# Altium integrated library HARTING IDC 2.54mm Pitch.IntLib: 226 symbols (part 1 of 5)
Pins are listed as number, name and electrical type; pins without a type are passive.

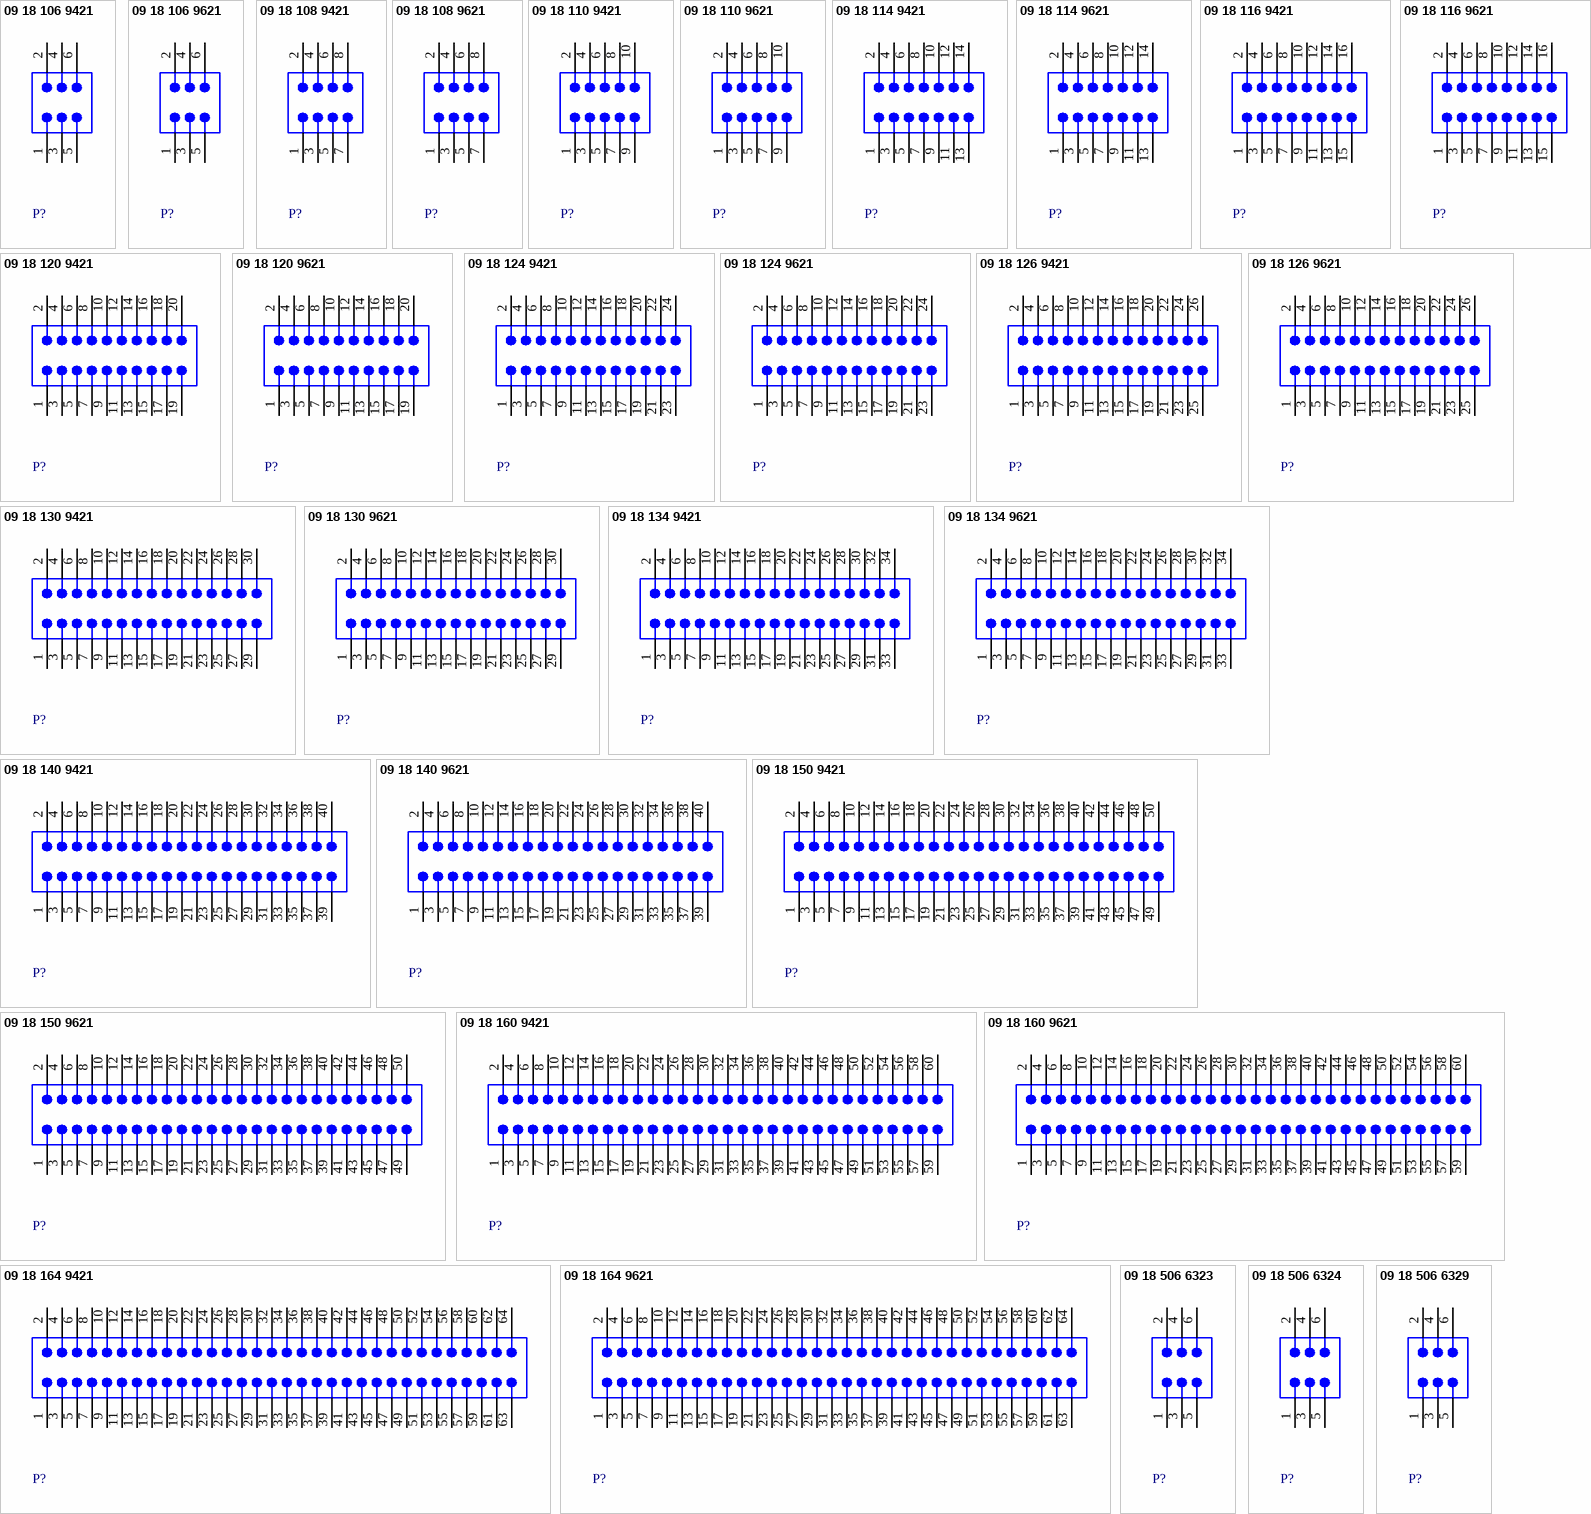
[diagram p0: symbols 09 18 106 9421 to 09 18 506 6329]

## 09 18 106 9421
designator P?
Flat Cable Connector (IDC), PCB Transition Connector, 2 Rows, Kinked Solder Pin, 6 Contacts; PCB_Layout: Complies with manufacturer's recommendation.; DrillSize: Corresponds to nominal value.; Published: 15-Nov-2004; PackageDocument: 16-Sep-2003; PackageReference: 9181069421; Publisher: Altium Limited; ComponentLink1Description: Manufacturer Link; ComponentLink1URL: http://www.harting.com/; ComponentLink2Description: Packaging Specification; ComponentLink2URL: http://www.harkis.harting.com/_sek/pdf/TB_09181069421_BL01_R31541.pdf
footprint 9181069421 (Connector; IDC, PCB Transition - 2 Rows, Thru-Hole; 6 Position; Vertical; Pitch 2.54 mm; Body 12.92 x 6.1 x 7.45 mm (LxWxH), Kinked Contacts)
pins: 1, 2, 3, 4, 5, 6

## 09 18 106 9621
designator P?
Flat Cable Connector (IDC), PCB Transition Connector, 2 Rows, Solder Pin, 6 Contacts; PCB_Layout: Complies with manufacturer's recommendation.; DrillSize: Corresponds to nominal value.; Published: 15-Nov-2004; DatasheetDocument: Sep-2003; PackageDocument: 26-Nov-2003; PackageReference: 9181069621; Publisher: Altium Limited; ComponentLink1Description: Manufacturer Link; ComponentLink1URL: http://www.harting.com/; ComponentLink2Description: Selection Guide; ComponentLink2URL: http://www.harting.com/imperia/md/content/steckverbinderundsystemkomponenten/folder/interface_engl_chapter_09.pdf
footprint 9181069621 (Connector; IDC, PCB Transition - 2 Rows, Thru-Hole; 6 Position; Vertical; Pitch 2.54 mm; Body 12.92 x 6.1 x 7.45 mm (LxWxH))
pins: 1, 2, 3, 4, 5, 6

## 09 18 108 9421
designator P?
Flat Cable Connector (IDC), PCB Transition Connector, 2 Rows, Kinked Solder Pin, 8 Contacts; PCB_Layout: Complies with manufacturer's recommendation.; DrillSize: Corresponds to nominal value.; Published: 15-Nov-2004; PackageDocument: 16-Sep-2003; PackageReference: 9181089421; Publisher: Altium Limited; ComponentLink1Description: Manufacturer Link; ComponentLink1URL: http://www.harting.com/; ComponentLink2Description: Packaging Specification; ComponentLink2URL: http://www.harkis.harting.com/_sek/pdf/TB_09181089421_BL01_R31541.pdf
footprint 9181089421 (Connector; IDC, PCB Transition - 2 Rows, Thru-Hole; 8 Position; Vertical; Pitch 2.54 mm; Body 15.46 x 6.1 x 7.45 mm (LxWxH), Kinked Contacts)
pins: 1, 2, 3, 4, 5, 6, 7, 8

## 09 18 108 9621
designator P?
Flat Cable Connector (IDC), PCB Transition Connector, 2 Rows, Solder Pin, 8 Contacts; PCB_Layout: Complies with manufacturer's recommendation.; DrillSize: Corresponds to nominal value.; Published: 15-Nov-2004; PackageDocument: 26-Nov-2003; PackageReference: 9181089621; Publisher: Altium Limited; ComponentLink1Description: Manufacturer Link; ComponentLink1URL: http://www.harting.com/; ComponentLink2Description: Packaging Specification; ComponentLink2URL: http://www.harkis.harting.com/_sek/pdf/TB_09181089621_BL01_R32151.pdf
footprint 9181089621 (Connector; IDC, PCB Transition - 2 Rows, Thru-Hole; 8 Position; Vertical; Pitch 2.54 mm; Body 15.46 x 6.1 x 7.45 mm (LxWxH))
pins: 1, 2, 3, 4, 5, 6, 7, 8

## 09 18 110 9421
designator P?
Flat Cable Connector (IDC), PCB Transition Connector, 2 Rows, Kinked Solder Pin, 10 Contacts; PCB_Layout: Complies with manufacturer's recommendation.; DrillSize: Corresponds to nominal value.; Published: 15-Nov-2004; PackageDocument: 16-Sep-2003; PackageReference: 9181109421; Publisher: Altium Limited; ComponentLink1Description: Manufacturer Link; ComponentLink1URL: http://www.harting.com/; ComponentLink2Description: Packaging Specification; ComponentLink2URL: http://www.harkis.harting.com/_sek/pdf/TB_09181109421_BL01_R31541.pdf
footprint 9181109421 (Connector; IDC, PCB Transition - 2 Rows, Thru-Hole; 10 Position; Vertical; Pitch 2.54 mm; Body 18.00 x 6.1 x 7.45 mm (LxWxH), Kinked Contacts)
pins: 1, 2, 3, 4, 5, 6, 7, 8, 9, 10

## 09 18 110 9621
designator P?
Flat Cable Connector (IDC), PCB Transition Connector, 2 Rows, Solder Pin, 10 Contacts; PCB_Layout: Complies with manufacturer's recommendation.; DrillSize: Corresponds to nominal value.; Published: 15-Nov-2004; DatasheetDocument: Sep-2003; PackageDocument: 26-Nov-2003; PackageReference: 9181109621; Publisher: Altium Limited; ComponentLink1Description: Manufacturer Link; ComponentLink1URL: http://www.harting.com/; ComponentLink2Description: Selection Guide; ComponentLink2URL: http://www.harting.com/imperia/md/content/steckverbinderundsystemkomponenten/folder/interface_engl_chapter_09.pdf
footprint 9181109621 (Connector; IDC, PCB Transition - 2 Rows, Thru-Hole; 10 Position; Vertical; Pitch 2.54 mm; Body 18.00 x 6.1 x 7.45 mm (LxWxH))
pins: 1, 2, 3, 4, 5, 6, 7, 8, 9, 10

## 09 18 114 9421
designator P?
Flat Cable Connector (IDC), PCB Transition Connector, 2 Rows, Kinked Solder Pin, 14 Contacts; PCB_Layout: Complies with manufacturer's recommendation.; DrillSize: Corresponds to nominal value.; Published: 15-Nov-2004; PackageDocument: 16-Sep-2003; PackageReference: 9181149421; Publisher: Altium Limited; ComponentLink1Description: Manufacturer Link; ComponentLink1URL: http://www.harting.com/; ComponentLink2Description: Packaging Specification; ComponentLink2URL: http://www.harkis.harting.com/_sek/pdf/TB_09181149421_BL01_R31541.pdf
footprint 9181149421 (Connector; IDC, PCB Transition - 2 Rows, Thru-Hole; 14 Position; Vertical; Pitch 2.54 mm; Body 23.08 x 6.1 x 7.45 mm (LxWxH), Kinked Contacts)
pins: 1, 2, 3, 4, 5, 6, 7, 8, 9, 10, 11, 12, 13, 14

## 09 18 114 9621
designator P?
Flat Cable Connector (IDC), PCB Transition Connector, 2 Rows, Solder Pin, 14 Contacts; PCB_Layout: Complies with manufacturer's recommendation.; DrillSize: Corresponds to nominal value.; Published: 15-Nov-2004; DatasheetDocument: Sep-2003; PackageDocument: 26-Nov-2003; PackageReference: 9181149621; Publisher: Altium Limited; ComponentLink1Description: Manufacturer Link; ComponentLink1URL: http://www.harting.com/; ComponentLink2Description: Selection Guide; ComponentLink2URL: http://www.harting.com/imperia/md/content/steckverbinderundsystemkomponenten/folder/interface_engl_chapter_09.pdf
footprint 9181149621 (Connector; IDC, PCB Transition - 2 Rows, Thru-Hole; 14 Position; Vertical; Pitch 2.54 mm; Body 23.08 x 6.1 x 7.45 mm (LxWxH))
pins: 1, 2, 3, 4, 5, 6, 7, 8, 9, 10, 11, 12, 13, 14

## 09 18 116 9421
designator P?
Flat Cable Connector (IDC), PCB Transition Connector, 2 Rows, Kinked Solder Pin, 16 Contacts; PCB_Layout: Complies with manufacturer's recommendation.; DrillSize: Corresponds to nominal value.; Published: 15-Nov-2004; PackageDocument: 16-Sep-2003; PackageReference: 9181169421; Publisher: Altium Limited; ComponentLink1Description: Manufacturer Link; ComponentLink1URL: http://www.harting.com/; ComponentLink2Description: Packaging Specification; ComponentLink2URL: http://www.harkis.harting.com/_sek/pdf/TB_09181169421_BL01_R31541.pdf
footprint 9181169421 (Connector; IDC, PCB Transition - 2 Rows, Thru-Hole; 16 Position; Vertical; Pitch 2.54 mm; Body 25.62 x 6.1 x 7.45 mm (LxWxH), Kinked Contacts)
pins: 1, 2, 3, 4, 5, 6, 7, 8, 9, 10, 11, 12, 13, 14, 15, 16

## 09 18 116 9621
designator P?
Flat Cable Connector (IDC), PCB Transition Connector, 2 Rows, Solder Pin, 16 Contacts; PCB_Layout: Complies with manufacturer's recommendation.; DrillSize: Corresponds to nominal value.; Published: 15-Nov-2004; DatasheetDocument: Sep-2003; PackageDocument: 26-Nov-2003; PackageReference: 9181169621; Publisher: Altium Limited; ComponentLink1Description: Manufacturer Link; ComponentLink1URL: http://www.harting.com/; ComponentLink2Description: Selection Guide; ComponentLink2URL: http://www.harting.com/imperia/md/content/steckverbinderundsystemkomponenten/folder/interface_engl_chapter_09.pdf
footprint 9181169621 (Connector; IDC, PCB Transition - 2 Rows, Thru-Hole; 16 Position; Vertical; Pitch 2.54 mm; Body 25.62 x 6.1 x 7.45 mm (LxWxH))
pins: 1, 2, 3, 4, 5, 6, 7, 8, 9, 10, 11, 12, 13, 14, 15, 16

## 09 18 120 9421
designator P?
Flat Cable Connector (IDC), PCB Transition Connector, 2 Rows, Kinked Solder Pin, 20 Contacts; PCB_Layout: Complies with manufacturer's recommendation.; DrillSize: Corresponds to nominal value.; Published: 15-Nov-2004; PackageDocument: 16-Sep-2003; PackageReference: 9181209421; Publisher: Altium Limited; ComponentLink1Description: Manufacturer Link; ComponentLink1URL: http://www.harting.com/; ComponentLink2Description: Packaging Specification; ComponentLink2URL: http://www.harkis.harting.com/_sek/pdf/TB_09181209421_BL01_R31541.pdf
footprint 9181209421 (Connector; IDC, PCB Transition - 2 Rows, Thru-Hole; 20 Position; Vertical; Pitch 2.54 mm; Body 30.74 x 6.1 x 7.45 mm (LxWxH), Kinked Contacts)
pins: 1, 2, 3, 4, 5, 6, 7, 8, 9, 10, 11, 12, 13, 14, 15, 16, 17, 18, 19, 20

## 09 18 120 9621
designator P?
Flat Cable Connector (IDC), PCB Transition Connector, 2 Rows, Solder Pin, 20 Contacts; PCB_Layout: Complies with manufacturer's recommendation.; DrillSize: Corresponds to nominal value.; Published: 15-Nov-2004; DatasheetDocument: Sep-2003; PackageDocument: 26-Nov-2003; PackageReference: 9181209621; Publisher: Altium Limited; ComponentLink1Description: Manufacturer Link; ComponentLink1URL: http://www.harting.com/; ComponentLink2Description: Selection Guide; ComponentLink2URL: http://www.harting.com/imperia/md/content/steckverbinderundsystemkomponenten/folder/interface_engl_chapter_09.pdf
footprint 9181209621 (Connector; IDC, PCB Transition - 2 Rows, Thru-Hole; 20 Position; Vertical; Pitch 2.54 mm; Body 30.74 x 6.1 x 7.45 mm (LxWxH))
pins: 1, 2, 3, 4, 5, 6, 7, 8, 9, 10, 11, 12, 13, 14, 15, 16, 17, 18, 19, 20

## 09 18 124 9421
designator P?
Flat Cable Connector (IDC), PCB Transition Connector, 2 Rows, Kinked Solder Pin, 24 Contacts; PCB_Layout: Complies with manufacturer's recommendation.; DrillSize: Corresponds to nominal value.; Published: 15-Nov-2004; PackageReference: 9181249421; Publisher: Altium Limited; ComponentLink1Description: Manufacturer Link; ComponentLink1URL: http://www.harting.com/
footprint 9181249421 (Connector; IDC, PCB Transition - 2 Rows, Thru-Hole; 24 Position; Vertical; Pitch 2.54 mm; Body 35.78 x 6.1 x 7.45 mm (LxWxH), Kinked Contacts)
pins: 1, 2, 3, 4, 5, 6, 7, 8, 9, 10, 11, 12, 13, 14, 15, 16, 17, 18, 19, 20, 21, 22, 23, 24

## 09 18 124 9621
designator P?
Flat Cable Connector (IDC), PCB Transition Connector, 2 Rows, Solder Pin, 24 Contacts; PCB_Layout: Complies with manufacturer's recommendation.; DrillSize: Corresponds to nominal value.; Published: 15-Nov-2004; PackageDocument: 26-Nov-2003; PackageReference: 9181249621; Publisher: Altium Limited; ComponentLink1Description: Manufacturer Link; ComponentLink1URL: http://www.harting.com/; ComponentLink2Description: Packaging Specification; ComponentLink2URL: http://www.harkis.harting.com/_sek/pdf/TB_09181249621_BL01_R32151.pdf
footprint 9181249621 (Connector; IDC, PCB Transition - 2 Rows, Thru-Hole; 24 Position; Vertical; Pitch 2.54 mm; Body 35.78 x 6.1 x 7.45 mm (LxWxH))
pins: 1, 2, 3, 4, 5, 6, 7, 8, 9, 10, 11, 12, 13, 14, 15, 16, 17, 18, 19, 20, 21, 22, 23, 24

## 09 18 126 9421
designator P?
Flat Cable Connector (IDC), PCB Transition Connector, 2 Rows, Kinked Solder Pin, 26 Contacts; PCB_Layout: Complies with manufacturer's recommendation.; DrillSize: Corresponds to nominal value.; Published: 15-Nov-2004; PackageDocument: 16-Sep-2003; PackageReference: 9181269421; Publisher: Altium Limited; ComponentLink1Description: Manufacturer Link; ComponentLink1URL: http://www.harting.com/; ComponentLink2Description: Packaging Specification; ComponentLink2URL: http://www.harkis.harting.com/_sek/pdf/TB_09181269421_BL01_R31541.pdf
footprint 9181269421 (Connector; IDC, PCB Transition - 2 Rows, Thru-Hole; 26 Position; Vertical; Pitch 2.54 mm; Body 38.32 x 6.1 x 7.45 mm (LxWxH), Kinked Contacts)
pins: 1, 2, 3, 4, 5, 6, 7, 8, 9, 10, 11, 12, 13, 14, 15, 16, 17, 18, 19, 20, 21, 22, 23, 24, 25, 26

## 09 18 126 9621
designator P?
Flat Cable Connector (IDC), PCB Transition Connector, 2 Rows, Solder Pin, 26 Contacts; PCB_Layout: Complies with manufacturer's recommendation.; DrillSize: Corresponds to nominal value.; Published: 15-Nov-2004; DatasheetDocument: Sep-2003; PackageDocument: 26-Nov-2003; PackageReference: 9181269621; Publisher: Altium Limited; ComponentLink1Description: Manufacturer Link; ComponentLink1URL: http://www.harting.com/; ComponentLink2Description: Selection Guide; ComponentLink2URL: http://www.harting.com/imperia/md/content/steckverbinderundsystemkomponenten/folder/interface_engl_chapter_09.pdf
footprint 9181269621 (Connector; IDC, PCB Transition - 2 Rows, Thru-Hole; 26 Position; Vertical; Pitch 2.54 mm; Body 38.32 x 6.1 x 7.45 mm (LxWxH))
pins: 1, 2, 3, 4, 5, 6, 7, 8, 9, 10, 11, 12, 13, 14, 15, 16, 17, 18, 19, 20, 21, 22, 23, 24, 25, 26

## 09 18 130 9421
designator P?
Flat Cable Connector (IDC), PCB Transition Connector, 2 Rows, Kinked Solder Pin, 30 Contacts; PCB_Layout: Complies with manufacturer's recommendation.; DrillSize: Corresponds to nominal value.; Published: 15-Nov-2004; PackageDocument: 16-Sep-2003; PackageReference: 9181309421; Publisher: Altium Limited; ComponentLink1Description: Manufacturer Link; ComponentLink1URL: http://www.harting.com/; ComponentLink2Description: Packaging Specification; ComponentLink2URL: http://www.harkis.harting.com/_sek/pdf/TB_09181309421_BL01_R31541.pdf
footprint 9181309421 (Connector; IDC, PCB Transition - 2 Rows, Thru-Hole; 30 Position; Vertical; Pitch 2.54 mm; Body 43.40 x 6.1 x 7.45 mm (LxWxH), Kinked Contacts)
pins: 1, 2, 3, 4, 5, 6, 7, 8, 9, 10, 11, 12, 13, 14, 15, 16, 17, 18, 19, 20, 21, 22, 23, 24, 25, 26, 27, 28, 29, 30

## 09 18 130 9621
designator P?
Flat Cable Connector (IDC), PCB Transition Connector, 2 Rows, Solder Pin, 30 Contacts; PCB_Layout: Complies with manufacturer's recommendation.; DrillSize: Corresponds to nominal value.; Published: 15-Nov-2004; PackageDocument: 26-Nov-2003; PackageReference: 9181309621; Publisher: Altium Limited; ComponentLink1Description: Manufacturer Link; ComponentLink1URL: http://www.harting.com/; ComponentLink2Description: Packaging Specification; ComponentLink2URL: http://www.harkis.harting.com/_sek/pdf/TB_09181309621_BL01_R32151.pdf
footprint 9181309621 (Connector; IDC, PCB Transition - 2 Rows, Thru-Hole; 30 Position; Vertical; Pitch 2.54 mm; Body 43.40 x 6.1 x 7.45 mm (LxWxH))
pins: 1, 2, 3, 4, 5, 6, 7, 8, 9, 10, 11, 12, 13, 14, 15, 16, 17, 18, 19, 20, 21, 22, 23, 24, 25, 26, 27, 28, 29, 30

## 09 18 134 9421
designator P?
Flat Cable Connector (IDC), PCB Transition Connector, 2 Rows, Kinked Solder Pin, 34 Contacts; PCB_Layout: Complies with manufacturer's recommendation.; DrillSize: Corresponds to nominal value.; Published: 15-Nov-2004; PackageDocument: 16-Sep-2003; PackageReference: 9181349421; Publisher: Altium Limited; ComponentLink1Description: Manufacturer Link; ComponentLink1URL: http://www.harting.com/; ComponentLink2Description: Packaging Specification; ComponentLink2URL: http://www.harkis.harting.com/_sek/pdf/TB_09181349421_BL01_R31541.pdf
footprint 9181349421 (Connector; IDC, PCB Transition - 2 Rows, Thru-Hole; 34 Position; Vertical; Pitch 2.54 mm; Body 48.48 x 6.1 x 7.45 mm (LxWxH), Kinked Contacts)
pins: 1, 2, 3, 4, 5, 6, 7, 8, 9, 10, 11, 12, 13, 14, 15, 16, 17, 18, 19, 20, 21, 22, 23, 24, 25, 26, 27, 28, 29, 30, 31, 32, 33, 34

## 09 18 134 9621
designator P?
Flat Cable Connector (IDC), PCB Transition Connector, 2 Rows, Solder Pin, 34 Contacts; PCB_Layout: Complies with manufacturer's recommendation.; DrillSize: Corresponds to nominal value.; Published: 15-Nov-2004; DatasheetDocument: Sep-2003; PackageDocument: 26-Nov-2003; PackageReference: 9181349621; Publisher: Altium Limited; ComponentLink1Description: Manufacturer Link; ComponentLink1URL: http://www.harting.com/; ComponentLink2Description: Selection Guide; ComponentLink2URL: http://www.harting.com/imperia/md/content/steckverbinderundsystemkomponenten/folder/interface_engl_chapter_09.pdf
footprint 9181349621 (Connector; IDC, PCB Transition - 2 Rows, Thru-Hole; 34 Position; Vertical; Pitch 2.54 mm; Body 48.48 x 6.1 x 7.45 mm (LxWxH))
pins: 1, 2, 3, 4, 5, 6, 7, 8, 9, 10, 11, 12, 13, 14, 15, 16, 17, 18, 19, 20, 21, 22, 23, 24, 25, 26, 27, 28, 29, 30, 31, 32, 33, 34

## 09 18 140 9421
designator P?
Flat Cable Connector (IDC), PCB Transition Connector, 2 Rows, Kinked Solder Pin, 40 Contacts; PCB_Layout: Complies with manufacturer's recommendation.; DrillSize: Corresponds to nominal value.; Published: 15-Nov-2004; PackageDocument: 16-Sep-2003; PackageReference: 9181409421; Publisher: Altium Limited; ComponentLink1Description: Manufacturer Link; ComponentLink1URL: http://www.harting.com/; ComponentLink2Description: Packaging Specification; ComponentLink2URL: http://www.harkis.harting.com/_sek/pdf/TB_09181409421_BL01_R31541.pdf
footprint 9181409421 (Connector; IDC, PCB Transition - 2 Rows, Thru-Hole; 40 Position; Vertical; Pitch 2.54 mm; Body 56.10 x 6.1 x 7.45 mm (LxWxH), Kinked Contacts)
pins: 1, 2, 3, 4, 5, 6, 7, 8, 9, 10, 11, 12, 13, 14, 15, 16, 17, 18, 19, 20, 21, 22, 23, 24, 25, 26, 27, 28, 29, 30, 31, 32, 33, 34, 35, 36, 37, 38, 39, 40

## 09 18 140 9621
designator P?
Flat Cable Connector (IDC), PCB Transition Connector, 2 Rows, Solder Pin, 40 Contacts; PCB_Layout: Complies with manufacturer's recommendation.; DrillSize: Corresponds to nominal value.; Published: 15-Nov-2004; DatasheetDocument: Sep-2003; PackageDocument: 26-Nov-2003; PackageReference: 9181409621; Publisher: Altium Limited; ComponentLink1Description: Manufacturer Link; ComponentLink1URL: http://www.harting.com/; ComponentLink2Description: Selection Guide; ComponentLink2URL: http://www.harting.com/imperia/md/content/steckverbinderundsystemkomponenten/folder/interface_engl_chapter_09.pdf
footprint 9181409621 (Connector; IDC, PCB Transition - 2 Rows, Thru-Hole; 40 Position; Vertical; Pitch 2.54 mm; Body 56.10 x 6.1 x 7.45 mm (LxWxH))
pins: 1, 2, 3, 4, 5, 6, 7, 8, 9, 10, 11, 12, 13, 14, 15, 16, 17, 18, 19, 20, 21, 22, 23, 24, 25, 26, 27, 28, 29, 30, 31, 32, 33, 34, 35, 36, 37, 38, 39, 40

## 09 18 150 9421
designator P?
Flat Cable Connector (IDC), PCB Transition Connector, 2 Rows, Kinked Solder Pin, 50 Contacts; PCB_Layout: Complies with manufacturer's recommendation.; DrillSize: Corresponds to nominal value.; Published: 15-Nov-2004; PackageDocument: 16-Sep-2003; PackageReference: 9181509421; Publisher: Altium Limited; ComponentLink1Description: Manufacturer Link; ComponentLink1URL: http://www.harting.com/; ComponentLink2Description: Packaging Specification; ComponentLink2URL: http://www.harkis.harting.com/_sek/pdf/TB_09181509421_BL01_R31541.pdf
footprint 9181509421 (Connector; IDC, PCB Transition - 2 Rows, Thru-Hole; 50 Position; Vertical; Pitch 2.54 mm; Body 68.80 x 6.1 x 7.45 mm (LxWxH), Kinked Contacts)
pins: 1, 2, 3, 4, 5, 6, 7, 8, 9, 10, 11, 12, 13, 14, 15, 16, 17, 18, 19, 20, 21, 22, 23, 24, 25, 26, 27, 28, 29, 30, 31, 32, 33, 34, 35, 36, 37, 38, 39, 40, 41, 42, 43, 44, 45, 46, 47, 48, 49, 50

## 09 18 150 9621
designator P?
Flat Cable Connector (IDC), PCB Transition Connector, 2 Rows, Solder Pin, 50 Contacts; PCB_Layout: Complies with manufacturer's recommendation.; DrillSize: Corresponds to nominal value.; Published: 15-Nov-2004; DatasheetDocument: Sep-2003; PackageDocument: 26-Oct-2003; PackageReference: 9181509621; Publisher: Altium Limited; ComponentLink1Description: Manufacturer Link; ComponentLink1URL: http://www.harting.com/; ComponentLink2Description: Selection Guide; ComponentLink2URL: http://www.harting.com/imperia/md/content/steckverbinderundsystemkomponenten/folder/interface_engl_chapter_09.pdf
footprint 9181509621 (Connector; IDC, PCB Transition - 2 Rows, Thru-Hole; 50 Position; Vertical; Pitch 2.54 mm; Body 68.80 x 6.1 x 7.45 mm (LxWxH))
pins: 1, 2, 3, 4, 5, 6, 7, 8, 9, 10, 11, 12, 13, 14, 15, 16, 17, 18, 19, 20, 21, 22, 23, 24, 25, 26, 27, 28, 29, 30, 31, 32, 33, 34, 35, 36, 37, 38, 39, 40, 41, 42, 43, 44, 45, 46, 47, 48, 49, 50

## 09 18 160 9421
designator P?
Flat Cable Connector (IDC), PCB Transition Connector, 2 Rows, Kinked Solder Pin, 60 Contacts; PCB_Layout: Complies with manufacturer's recommendation.; DrillSize: Corresponds to nominal value.; Published: 15-Nov-2004; PackageDocument: 16-Sep-2003; PackageReference: 9181609421; Publisher: Altium Limited; ComponentLink1Description: Manufacturer Link; ComponentLink1URL: http://www.harting.com/; ComponentLink2Description: Packaging Specification; ComponentLink2URL: http://www.harkis.harting.com/_sek/pdf/TB_09181609421_BL01_R31541.pdf
footprint 9181609421 (Connector; IDC, PCB Transition - 2 Rows, Thru-Hole; 60 Position; Vertical; Pitch 2.54 mm; Body 81.50 x 6.1 x 7.45 mm (LxWxH), Kinked Contacts)
pins: 1, 2, 3, 4, 5, 6, 7, 8, 9, 10, 11, 12, 13, 14, 15, 16, 17, 18, 19, 20, 21, 22, 23, 24, 25, 26, 27, 28, 29, 30, 31, 32, 33, 34, 35, 36, 37, 38, 39, 40, 41, 42, 43, 44, 45, 46, 47, 48, 49, 50, 51, 52, 53, 54, 55, 56, 57, 58, 59, 60

## 09 18 160 9621
designator P?
Flat Cable Connector (IDC), PCB Transition Connector, 2 Rows, Solder Pin, 60 Contacts; PCB_Layout: Complies with manufacturer's recommendation.; DrillSize: Corresponds to nominal value.; Published: 15-Nov-2004; DatasheetDocument: Sep-2003; PackageDocument: 26-Nov-2003; PackageReference: 9181609621; Publisher: Altium Limited; ComponentLink1Description: Manufacturer Link; ComponentLink1URL: http://www.harting.com/; ComponentLink2Description: Selection Guide; ComponentLink2URL: http://www.harting.com/imperia/md/content/steckverbinderundsystemkomponenten/folder/interface_engl_chapter_09.pdf
footprint 9181609621 (Connector; IDC, PCB Transition - 2 Rows, Thru-Hole; 60 Position; Vertical; Pitch 2.54 mm; Body 81.50 x 6.1 x 7.45 mm (LxWxH))
pins: 1, 2, 3, 4, 5, 6, 7, 8, 9, 10, 11, 12, 13, 14, 15, 16, 17, 18, 19, 20, 21, 22, 23, 24, 25, 26, 27, 28, 29, 30, 31, 32, 33, 34, 35, 36, 37, 38, 39, 40, 41, 42, 43, 44, 45, 46, 47, 48, 49, 50, 51, 52, 53, 54, 55, 56, 57, 58, 59, 60

## 09 18 164 9421
designator P?
Flat Cable Connector (IDC), PCB Transition Connector, 2 Rows, Kinked Solder Pin, 64 Contacts; PCB_Layout: Complies with manufacturer's recommendation.; DrillSize: Corresponds to nominal value.; Published: 15-Nov-2004; PackageDocument: 16-Sep-2003; PackageReference: 9181649421; Publisher: Altium Limited; ComponentLink1Description: Manufacturer Link; ComponentLink1URL: http://www.harting.com/; ComponentLink2Description: Packaging Specification; ComponentLink2URL: http://www.harkis.harting.com/_sek/pdf/TB_09181649421_BL01_R31541.pdf
footprint 9181649421 (Connector; IDC, PCB Transition - 2 Rows, Thru-Hole; 64 Position; Vertical; Pitch 2.54 mm; Body 86.58 x 6.1 x 7.45 mm (LxWxH), Kinked Contacts)
pins: 1, 2, 3, 4, 5, 6, 7, 8, 9, 10, 11, 12, 13, 14, 15, 16, 17, 18, 19, 20, 21, 22, 23, 24, 25, 26, 27, 28, 29, 30, 31, 32, 33, 34, 35, 36, 37, 38, 39, 40, 41, 42, 43, 44, 45, 46, 47, 48, 49, 50, 51, 52, 53, 54, 55, 56, 57, 58, 59, 60, 61, 62, 63, 64

## 09 18 164 9621
designator P?
Flat Cable Connector (IDC), PCB Transition Connector, 2 Rows, Solder Pin, 64 Contacts; PCB_Layout: Complies with manufacturer's recommendation.; DrillSize: Corresponds to nominal value.; Published: 15-Nov-2004; DatasheetDocument: Sep-2003; PackageDocument: 26-Nov-2003; PackageReference: 9181649621; Publisher: Altium Limited; ComponentLink1Description: Manufacturer Link; ComponentLink1URL: http://www.harting.com/; ComponentLink2Description: Selection Guide; ComponentLink2URL: http://www.harting.com/imperia/md/content/steckverbinderundsystemkomponenten/folder/interface_engl_chapter_09.pdf
footprint 9181649621 (Connector; IDC, PCB Transition - 2 Rows, Thru-Hole; 64 Position; Vertical; Pitch 2.54 mm; Body 86.58 x 6.1 x 7.45 mm (LxWxH))
pins: 1, 2, 3, 4, 5, 6, 7, 8, 9, 10, 11, 12, 13, 14, 15, 16, 17, 18, 19, 20, 21, 22, 23, 24, 25, 26, 27, 28, 29, 30, 31, 32, 33, 34, 35, 36, 37, 38, 39, 40, 41, 42, 43, 44, 45, 46, 47, 48, 49, 50, 51, 52, 53, 54, 55, 56, 57, 58, 59, 60, 61, 62, 63, 64

## 09 18 506 6323
designator P?
Flat Cable Connector (IDC), Low-Profile Male Header, Angled Solder Pin, 6 Contacts, Performance Level 2; PCB_Layout: Complies with manufacturer's recommendation.; DrillSize: Corresponds to nominal value.; Published: 15-Nov-2004; DatasheetDocument: Sep-2003; PackageDocument: 03-Jun-2003; PackageReference: 918506x323; Publisher: Altium Limited; ComponentLink1Description: Manufacturer Link; ComponentLink1URL: http://www.harting.com/; ComponentLink2Description: Selection Guide; ComponentLink2URL: http://www.harting.com/imperia/md/content/steckverbinderundsystemkomponenten/folder/interface_engl_chapter_09.pdf
footprint 918506x323 (Connector; IDC, Low Profile Male Header, Thru-Hole; 6 Position; Right Angle; Pitch 2.54 mm; Body 15.24 x 8.9 x 9.2 mm (LxWxH))
pins: 1, 2, 3, 4, 5, 6

## 09 18 506 6324
designator P?
Flat Cable Connector (IDC), Low-Profile Male Header, Straight Solder Pin, 6 Contacts, Performance Level 2; PCB_Layout: Complies with manufacturer's recommendation.; DrillSize: Corresponds to nominal value.; Published: 15-Nov-2004; DatasheetDocument: Sep-2003; PackageDocument: 25-Apr-2002; PackageReference: 918506x324; Publisher: Altium Limited; ComponentLink1Description: Manufacturer Link; ComponentLink1URL: http://www.harting.com/; ComponentLink2Description: Selection Guide; ComponentLink2URL: http://www.harting.com/imperia/md/content/steckverbinderundsystemkomponenten/folder/interface_engl_chapter_09.pdf
footprint 918506x324 (Connector; IDC, Low Profile Male Header, Thru-Hole; 6 Position; Vertical; Pitch 2.54 mm; Body 15.24 x 9.2 x 9.45 mm (LxWxH))
pins: 1, 2, 3, 4, 5, 6

## 09 18 506 6329
designator P?
Flat Cable Connector (IDC), Standard Male Header, Straight Press-in Pin, 6 Contacts, Performance Level 2; PCB_Layout: Complies with manufacturer's recommendation.; DrillSize: Corresponds to nominal value.; Published: 15-Nov-2004; PackageDocument: Feb-2000; PackageReference: 918506x329; Publisher: Altium Limited; ComponentLink1Description: Manufacturer Link; ComponentLink1URL: http://www.harting.com/; ComponentLink2Description: Packaging Specification; ComponentLink2URL: http://www.harkis.harting.com/_sek/pdf/TB_0918506x329_BL01_R32154.pdf
footprint 918506x329 (Connector; IDC, Straight Press-in Pin, Thru-Hole; 6 Position; Vertical; Pitch 2.54 mm; Body 15.24 x 9.2 x 9.45 mm (LxWxH))
pins: 1, 2, 3, 4, 5, 6

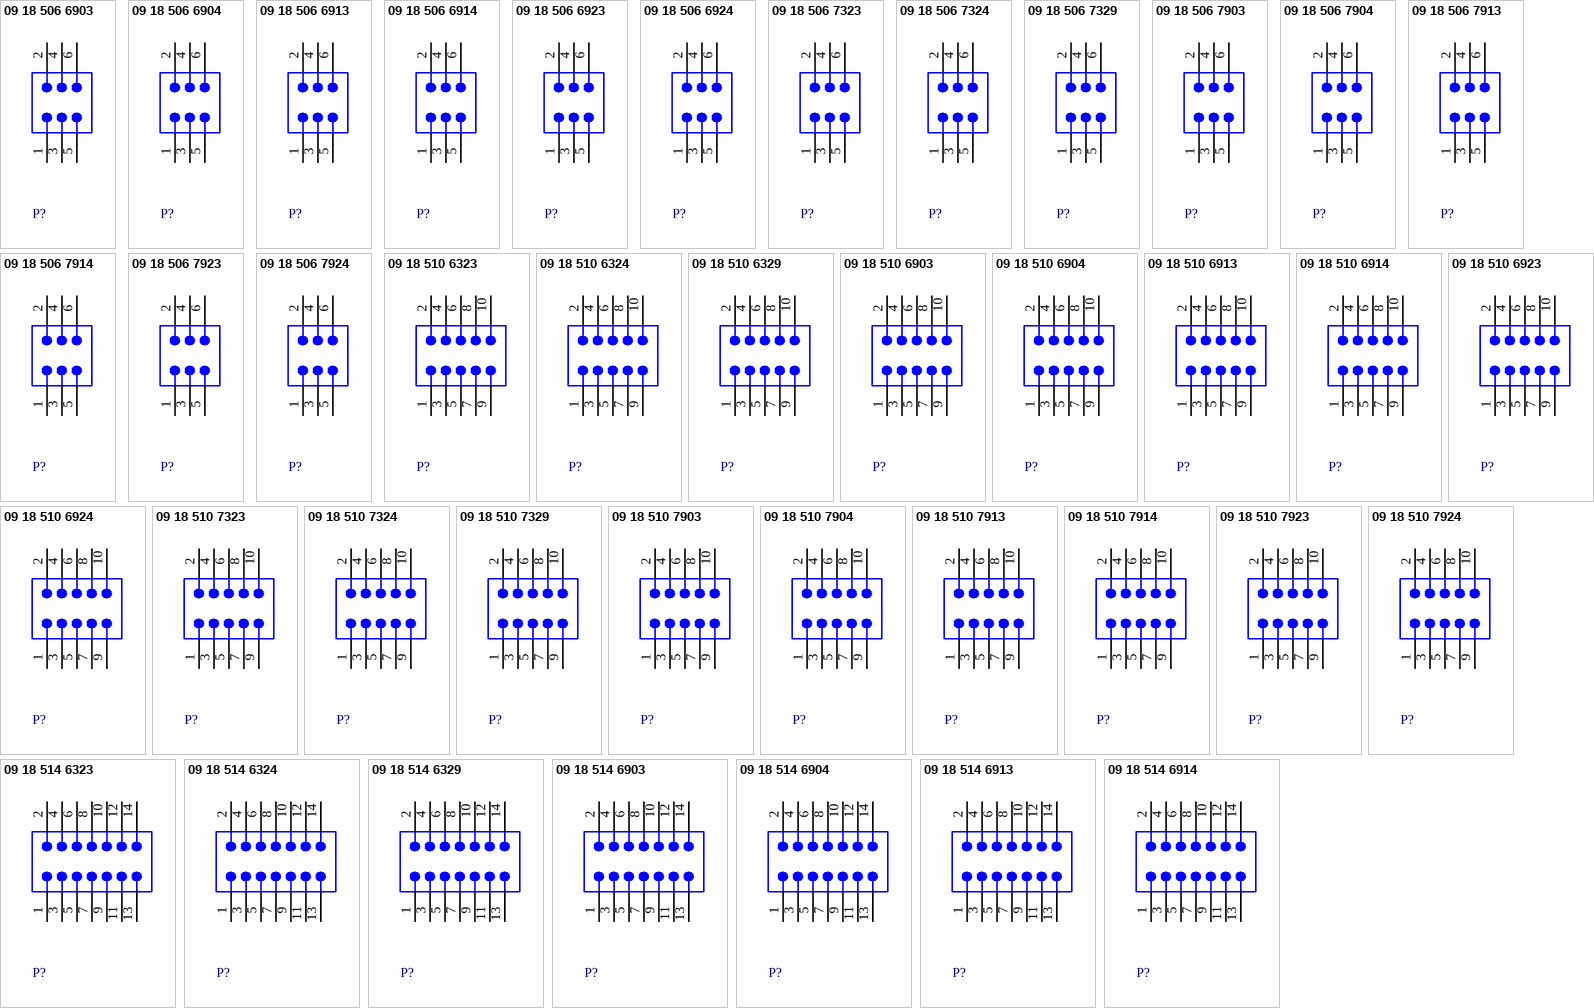
[diagram p1: symbols 09 18 506 6903 to 09 18 514 6914]

## 09 18 506 6903
designator P?
Flat Cable Connector (IDC), Standard Male Header, Angled Solder Pin, 6 Contacts, Long Levers, Performance Level 2; PCB_Layout: Complies with manufacturer's recommendation.; DrillSize: Corresponds to nominal value.; Published: 15-Nov-2004; DatasheetDocument: Sep-2003; PackageDocument: Mar-2002; PackageReference: 918506x903; Publisher: Altium Limited; ComponentLink1Description: Manufacturer Link; ComponentLink1URL: http://www.harting.com/; ComponentLink2Description: Packaging Specification; ComponentLink2URL: http://www.harkis.harting.com/_sek/pdf/TB_0918506x90x_BL02_R29759.pdf; ComponentLink3Description: Selection Guide; ComponentLink3URL: http://www.harting.com/imperia/md/content/steckverbinderundsystemkomponenten/folder/interface_engl_chapter_09.pdf
footprint 918506x903 (Connector; IDC, Thru-Hole; 6 Position; Right Angle; Pitch 2.54 mm; Body 27.10 x 8.5 x 25.75 mm (LxHxW), Locking levers)
signal-integrity model IDC
pins: 1, 2, 3, 4, 5, 6

## 09 18 506 6904
designator P?
Flat Cable Connector (IDC), Standard Male Header, Straight Solder Pin, 6 Contacts, Long Levers, Performance Level 2; PCB_Layout: Complies with manufacturer's recommendation.; DrillSize: Corresponds to nominal value.; Published: 15-Nov-2004; DatasheetDocument: Sep-2003; PackageDocument: Mar-2002; PackageReference: 918506x904; Publisher: Altium Limited; ComponentLink1Description: Manufacturer Link; ComponentLink1URL: http://www.harting.com/; ComponentLink2Description: Selection Guide; ComponentLink2URL: http://www.harting.com/imperia/md/content/steckverbinderundsystemkomponenten/folder/interface_engl_chapter_09.pdf
footprint 918506x904 (Connector; IDC, Thru-Hole; 6 Position; Vertical; Pitch 2.54 mm; Body 27.10 x 8.5 x 25.75 mm (LxWxH), Locking levers)
pins: 1, 2, 3, 4, 5, 6

## 09 18 506 6913
designator P?
Flat Cable Connector (IDC), Standard Male Header, Angled Solder Pin, 6 Contacts, Short Levers, Performance Level 2; PCB_Layout: Complies with manufacturer's recommendation.; DrillSize: Corresponds to nominal value.; Published: 15-Nov-2004; DatasheetDocument: Sep-2003; PackageDocument: Mar-2002; PackageReference: 918506x913; Publisher: Altium Limited; ComponentLink1Description: Manufacturer Link; ComponentLink1URL: http://www.harting.com/; ComponentLink2Description: Packaging Specification; ComponentLink2URL: http://www.harkis.harting.com/_sek/pdf/TB_0918506x91x_BL02_R29753.pdf; ComponentLink3Description: Selection Guide; ComponentLink3URL: http://www.harting.com/imperia/md/content/steckverbinderundsystemkomponenten/folder/interface_engl_chapter_09.pdf
footprint 918506x913 (Connector; IDC, Thru-Hole; 6 Position; Right Angle; Pitch 2.54 mm; Body 26.90 x 8.5 x 23.30 mm (LxHxW), Locking levers)
pins: 1, 2, 3, 4, 5, 6

## 09 18 506 6914
designator P?
Flat Cable Connector (IDC), Standard Male Header, Straight Solder Pin, 6 Contacts, Short Levers, Performance Level 2; PCB_Layout: Complies with manufacturer's recommendation.; DrillSize: Corresponds to nominal value.; Published: 15-Nov-2004; DatasheetDocument: Sep-2003; PackageDocument: Jun-2000; PackageReference: 918506x914; Publisher: Altium Limited; ComponentLink1Description: Manufacturer Link; ComponentLink1URL: http://www.harting.com/; ComponentLink2Description: Selection Guide; ComponentLink2URL: http://www.harting.com/imperia/md/content/steckverbinderundsystemkomponenten/folder/interface_engl_chapter_09.pdf
footprint 918506x914 (Connector; IDC, Thru-Hole; 6 Position; Vertical; Pitch 2.54 mm; Body 26.90 x 8.5 x 23.30 mm (LxWxH), Locking levers)
pins: 1, 2, 3, 4, 5, 6

## 09 18 506 6923
designator P?
Flat Cable Connector (IDC), Standard Male Header, Angled Solder Pin, 6 Contacts, Without Levers, Performance Level 2; PCB_Layout: Complies with manufacturer's recommendation.; DrillSize: Corresponds to nominal value.; Published: 15-Nov-2004; DatasheetDocument: Sep-2003; PackageDocument: Mar-2002; PackageReference: 918506x923; Publisher: Altium Limited; ComponentLink1Description: Manufacturer Link; ComponentLink1URL: http://www.harting.com/; ComponentLink2Description: Selection Guide; ComponentLink2URL: http://www.harting.com/imperia/md/content/steckverbinderundsystemkomponenten/folder/interface_engl_chapter_09.pdf
footprint 918506x923 (Connector; IDC, Thru-Hole; 6 Position; Right Angle; Pitch 2.54 mm; Body 26.90 x 8.5 x 17.30 mm (LxHxW), Without locking levers)
pins: 1, 2, 3, 4, 5, 6

## 09 18 506 6924
designator P?
Flat Cable Connector (IDC), Standard Male Header, Straight Solder Pin, 6 Contacts, Without Levers, Performance Level 2; PCB_Layout: Complies with manufacturer's recommendation.; DrillSize: Corresponds to nominal value.; Published: 15-Nov-2004; DatasheetDocument: Sep-2003; PackageDocument: Jun-2000; PackageReference: 918506x924; Publisher: Altium Limited; ComponentLink1Description: Manufacturer Link; ComponentLink1URL: http://www.harting.com/; ComponentLink2Description: Selection Guide; ComponentLink2URL: http://www.harting.com/imperia/md/content/steckverbinderundsystemkomponenten/folder/interface_engl_chapter_09.pdf
footprint 918506x924 (Connector; IDC, Thru-Hole; 6 Position; Vertical; Pitch 2.54 mm; Body 26.90 x 8.5 x 17.30 mm (LxWxH), Without locking levers)
pins: 1, 2, 3, 4, 5, 6

## 09 18 506 7323
designator P?
Flat Cable Connector (IDC), Low-Profile Male Header, Angled Solder Pin, 6 Contacts, Performance Level 3; PCB_Layout: Complies with manufacturer's recommendation.; DrillSize: Corresponds to nominal value.; Published: 15-Nov-2004; DatasheetDocument: Sep-2003; PackageDocument: 03-Jun-2003; PackageReference: 918506x323; Publisher: Altium Limited; ComponentLink1Description: Manufacturer Link; ComponentLink1URL: http://www.harting.com/; ComponentLink2Description: Selection Guide; ComponentLink2URL: http://www.harting.com/imperia/md/content/steckverbinderundsystemkomponenten/folder/interface_engl_chapter_09.pdf
footprint 918506x323 (Connector; IDC, Low Profile Male Header, Thru-Hole; 6 Position; Right Angle; Pitch 2.54 mm; Body 15.24 x 8.9 x 9.2 mm (LxWxH))
pins: 1, 2, 3, 4, 5, 6

## 09 18 506 7324
designator P?
Flat Cable Connector (IDC), Low-Profile Male Header, Straight Solder Pin, 6 Contacts, Performance Level 3; PCB_Layout: Complies with manufacturer's recommendation.; DrillSize: Corresponds to nominal value.; Published: 15-Nov-2004; DatasheetDocument: Sep-2003; PackageDocument: 25-Apr-2002; PackageReference: 918506x324; Publisher: Altium Limited; ComponentLink1Description: Manufacturer Link; ComponentLink1URL: http://www.harting.com/; ComponentLink2Description: Selection Guide; ComponentLink2URL: http://www.harting.com/imperia/md/content/steckverbinderundsystemkomponenten/folder/interface_engl_chapter_09.pdf
footprint 918506x324 (Connector; IDC, Low Profile Male Header, Thru-Hole; 6 Position; Vertical; Pitch 2.54 mm; Body 15.24 x 9.2 x 9.45 mm (LxWxH))
pins: 1, 2, 3, 4, 5, 6

## 09 18 506 7329
designator P?
Flat Cable Connector (IDC), Standard Male Header, Straight Press-in Pin, 6 Contacts, Performance Level 3; PCB_Layout: Complies with manufacturer's recommendation.; DrillSize: Corresponds to nominal value.; Published: 15-Nov-2004; PackageDocument: Feb-2000; PackageReference: 918506x329; Publisher: Altium Limited; ComponentLink1Description: Manufacturer Link; ComponentLink1URL: http://www.harting.com/; ComponentLink2Description: Packaging Specification; ComponentLink2URL: http://www.harkis.harting.com/_sek/pdf/TB_0918506x329_BL01_R32154.pdf
footprint 918506x329 (Connector; IDC, Straight Press-in Pin, Thru-Hole; 6 Position; Vertical; Pitch 2.54 mm; Body 15.24 x 9.2 x 9.45 mm (LxWxH))
pins: 1, 2, 3, 4, 5, 6

## 09 18 506 7903
designator P?
Flat Cable Connector (IDC), Standard Male Header, Angled Solder Pin, 6 Contacts, Long Levers, Performance Level 3; PCB_Layout: Complies with manufacturer's recommendation.; DrillSize: Corresponds to nominal value.; Published: 15-Nov-2004; DatasheetDocument: Sep-2003; PackageDocument: Mar-2002; PackageReference: 918506x903; Publisher: Altium Limited; ComponentLink1Description: Manufacturer Link; ComponentLink1URL: http://www.harting.com/; ComponentLink2Description: Packaging Specification; ComponentLink2URL: http://www.harkis.harting.com/_sek/pdf/TB_0918506x90x_BL02_R29759.pdf; ComponentLink3Description: Selection Guide; ComponentLink3URL: http://www.harting.com/imperia/md/content/steckverbinderundsystemkomponenten/folder/interface_engl_chapter_09.pdf
footprint 918506x903 (Connector; IDC, Thru-Hole; 6 Position; Right Angle; Pitch 2.54 mm; Body 27.10 x 8.5 x 25.75 mm (LxHxW), Locking levers)
pins: 1, 2, 3, 4, 5, 6

## 09 18 506 7904
designator P?
Flat Cable Connector (IDC), Standard Male Header, Straight Solder Pin, 6 Contacts, Long Levers, Performance Level 3; PCB_Layout: Complies with manufacturer's recommendation.; DrillSize: Corresponds to nominal value.; Published: 15-Nov-2004; DatasheetDocument: Sep-2003; PackageDocument: Mar-2002; PackageReference: 918506x904; Publisher: Altium Limited; ComponentLink1Description: Manufacturer Link; ComponentLink1URL: http://www.harting.com/; ComponentLink2Description: Selection Guide; ComponentLink2URL: http://www.harting.com/imperia/md/content/steckverbinderundsystemkomponenten/folder/interface_engl_chapter_09.pdf
footprint 918506x904 (Connector; IDC, Thru-Hole; 6 Position; Vertical; Pitch 2.54 mm; Body 27.10 x 8.5 x 25.75 mm (LxWxH), Locking levers)
pins: 1, 2, 3, 4, 5, 6

## 09 18 506 7913
designator P?
Flat Cable Connector (IDC), Standard Male Header, Angled Solder Pin, 6 Contacts, Short Levers, Performance Level 3; PCB_Layout: Complies with manufacturer's recommendation.; DrillSize: Corresponds to nominal value.; Published: 15-Nov-2004; DatasheetDocument: Sep-2003; PackageDocument: Mar-2002; PackageReference: 918506x913; Publisher: Altium Limited; ComponentLink1Description: Manufacturer Link; ComponentLink1URL: http://www.harting.com/; ComponentLink2Description: Packaging Specification; ComponentLink2URL: http://www.harkis.harting.com/_sek/pdf/TB_0918506x91x_BL02_R29753.pdf; ComponentLink3Description: Selection Guide; ComponentLink3URL: http://www.harting.com/imperia/md/content/steckverbinderundsystemkomponenten/folder/interface_engl_chapter_09.pdf
footprint 918506x913 (Connector; IDC, Thru-Hole; 6 Position; Right Angle; Pitch 2.54 mm; Body 26.90 x 8.5 x 23.30 mm (LxHxW), Locking levers)
pins: 1, 2, 3, 4, 5, 6

## 09 18 506 7914
designator P?
Flat Cable Connector (IDC), Standard Male Header, Straight Solder Pin, 6 Contacts, Short Levers, Performance Level 3; PCB_Layout: Complies with manufacturer's recommendation.; DrillSize: Corresponds to nominal value.; Published: 15-Nov-2004; DatasheetDocument: Sep-2003; PackageDocument: Jun-2000; PackageReference: 918506x914; Publisher: Altium Limited; ComponentLink1Description: Manufacturer Link; ComponentLink1URL: http://www.harting.com/; ComponentLink2Description: Selection Guide; ComponentLink2URL: http://www.harting.com/imperia/md/content/steckverbinderundsystemkomponenten/folder/interface_engl_chapter_09.pdf
footprint 918506x914 (Connector; IDC, Thru-Hole; 6 Position; Vertical; Pitch 2.54 mm; Body 26.90 x 8.5 x 23.30 mm (LxWxH), Locking levers)
pins: 1, 2, 3, 4, 5, 6

## 09 18 506 7923
designator P?
Flat Cable Connector (IDC), Standard Male Header, Angled Solder Pin, 6 Contacts, Without Levers, Performance Level 3; PCB_Layout: Complies with manufacturer's recommendation.; DrillSize: Corresponds to nominal value.; Published: 15-Nov-2004; DatasheetDocument: Sep-2003; PackageDocument: Mar-2002; PackageReference: 918506x923; Publisher: Altium Limited; ComponentLink1Description: Manufacturer Link; ComponentLink1URL: http://www.harting.com/; ComponentLink2Description: Selection Guide; ComponentLink2URL: http://www.harting.com/imperia/md/content/steckverbinderundsystemkomponenten/folder/interface_engl_chapter_09.pdf
footprint 918506x923 (Connector; IDC, Thru-Hole; 6 Position; Right Angle; Pitch 2.54 mm; Body 26.90 x 8.5 x 17.30 mm (LxHxW), Without locking levers)
pins: 1, 2, 3, 4, 5, 6

## 09 18 506 7924
designator P?
Flat Cable Connector (IDC), Standard Male Header, Straight Solder Pin, 6 Contacts, Without Levers, Performance Level 3; PCB_Layout: Complies with manufacturer's recommendation.; DrillSize: Corresponds to nominal value.; Published: 15-Nov-2004; DatasheetDocument: Sep-2003; PackageDocument: Jun-2000; PackageReference: 918506x924; Publisher: Altium Limited; ComponentLink1Description: Manufacturer Link; ComponentLink1URL: http://www.harting.com/; ComponentLink2Description: Selection Guide; ComponentLink2URL: http://www.harting.com/imperia/md/content/steckverbinderundsystemkomponenten/folder/interface_engl_chapter_09.pdf
footprint 918506x924 (Connector; IDC, Thru-Hole; 6 Position; Vertical; Pitch 2.54 mm; Body 26.90 x 8.5 x 17.30 mm (LxWxH), Without locking levers)
pins: 1, 2, 3, 4, 5, 6

## 09 18 510 6323
designator P?
Flat Cable Connector (IDC), Low-Profile Male Header, Angled Solder Pin, 10 Contacts, Performance Level 2; PCB_Layout: Complies with manufacturer's recommendation.; DrillSize: Corresponds to nominal value.; Published: 15-Nov-2004; DatasheetDocument: Sep-2003; PackageDocument: 03-Jun-2003; PackageReference: 918510x323; Publisher: Altium Limited; ComponentLink1Description: Manufacturer Link; ComponentLink1URL: http://www.harting.com/; ComponentLink2Description: Selection Guide; ComponentLink2URL: http://www.harting.com/imperia/md/content/steckverbinderundsystemkomponenten/folder/interface_engl_chapter_09.pdf
footprint 918510x323 (Connector; IDC, Low Profile Male Header, Thru-Hole; 10 Position; Right Angle; Pitch 2.54 mm; Body 20.32 x 8.9 x 9.2 mm (LxWxH))
pins: 1, 2, 3, 4, 5, 6, 7, 8, 9, 10

## 09 18 510 6324
designator P?
Flat Cable Connector (IDC), Low-Profile Male Header, Straight Solder Pin, 10 Contacts, Performance Level 2; PCB_Layout: Complies with manufacturer's recommendation.; DrillSize: Corresponds to nominal value.; Published: 15-Nov-2004; DatasheetDocument: Sep-2003; PackageDocument: 03-Jun-2003; PackageReference: 918510x324; Publisher: Altium Limited; ComponentLink1Description: Manufacturer Link; ComponentLink1URL: http://www.harting.com/; ComponentLink2Description: Selection Guide; ComponentLink2URL: http://www.harting.com/imperia/md/content/steckverbinderundsystemkomponenten/folder/interface_engl_chapter_09.pdf
footprint 918510x324 (Connector; IDC, Low Profile Male Header, Thru-Hole; 10 Position; Vertical; Pitch 2.54 mm; Body 20.32 x 9.2 x 9.45 mm (LxWxH))
pins: 1, 2, 3, 4, 5, 6, 7, 8, 9, 10

## 09 18 510 6329
designator P?
Flat Cable Connector (IDC), Standard Male Header, Straight Press-in Pin, 10 Contacts, Performance Level 2; PCB_Layout: Complies with manufacturer's recommendation.; DrillSize: Corresponds to nominal value.; Published: 15-Nov-2004; PackageDocument: Feb-2000; PackageReference: 918510x329; Publisher: Altium Limited; ComponentLink1Description: Manufacturer Link; ComponentLink1URL: http://www.harting.com/; ComponentLink2Description: Packaging Specification; ComponentLink2URL: http://www.harkis.harting.com/_sek/pdf/TB_0918510x329_BL01_R31897.pdf
footprint 918510x329 (Connector; IDC, Straight Press-in Pin, Thru-Hole; 10 Position; Vertical; Pitch 2.54 mm; Body 20.32 x 9.2 x 9.45 mm (LxWxH))
pins: 1, 2, 3, 4, 5, 6, 7, 8, 9, 10

## 09 18 510 6903
designator P?
Flat Cable Connector (IDC), Standard Male Header, Angled Solder Pin, 10 Contacts, Long Levers, Performance Level 2; PCB_Layout: Complies with manufacturer's recommendation.; DrillSize: Corresponds to nominal value.; Published: 15-Nov-2004; DatasheetDocument: Sep-2003; PackageDocument: Mar-2002; PackageReference: 918510x903; Publisher: Altium Limited; ComponentLink1Description: Manufacturer Link; ComponentLink1URL: http://www.harting.com/; ComponentLink2Description: Selection Guide; ComponentLink2URL: http://www.harting.com/imperia/md/content/steckverbinderundsystemkomponenten/folder/interface_engl_chapter_09.pdf
footprint 918510x903 (Connector; IDC, Thru-Hole; 10 Position; Right Angle; Pitch 2.54 mm; Body 32.30 x 8.5 x 25.75 mm (LxHxW), Locking levers)
pins: 1, 2, 3, 4, 5, 6, 7, 8, 9, 10

## 09 18 510 6904
designator P?
Flat Cable Connector (IDC), Standard Male Header, Straight Solder Pin, 10 Contacts, Long Levers, Performance Level 2; PCB_Layout: Complies with manufacturer's recommendation.; DrillSize: Corresponds to nominal value.; Published: 15-Nov-2004; DatasheetDocument: Sep-2003; PackageDocument: Jun-2000; PackageReference: 918510x904; Publisher: Altium Limited; ComponentLink1Description: Manufacturer Link; ComponentLink1URL: http://www.harting.com/; ComponentLink2Description: Selection Guide; ComponentLink2URL: http://www.harting.com/imperia/md/content/steckverbinderundsystemkomponenten/folder/interface_engl_chapter_09.pdf
footprint 918510x904 (Connector; IDC, Thru-Hole; 10 Position; Vertical; Pitch 2.54 mm; Body 32.30 x 8.5 x 25.75 mm (LxWxH), Locking levers)
pins: 1, 2, 3, 4, 5, 6, 7, 8, 9, 10

## 09 18 510 6913
designator P?
Flat Cable Connector (IDC), Standard Male Header, Angled Solder Pin, 10 Contacts, Short Levers, Performance Level 2; PCB_Layout: Complies with manufacturer's recommendation.; DrillSize: Corresponds to nominal value.; Published: 15-Nov-2004; DatasheetDocument: Sep-2003; PackageDocument: Mar-2002; PackageReference: 918510x913; Publisher: Altium Limited; ComponentLink1Description: Manufacturer Link; ComponentLink1URL: http://www.harting.com/; ComponentLink2Description: Selection Guide; ComponentLink2URL: http://www.harting.com/imperia/md/content/steckverbinderundsystemkomponenten/folder/interface_engl_chapter_09.pdf
footprint 918510x913 (Connector; IDC, Thru-Hole; 10 Position; Right Angle; Pitch 2.54 mm; Body 32.30 x 8.5 x 23.30 mm (LxHxW), Locking levers)
pins: 1, 2, 3, 4, 5, 6, 7, 8, 9, 10

## 09 18 510 6914
designator P?
Flat Cable Connector (IDC), Standard Male Header, Straight Solder Pin, 10 Contacts, Short Levers, Performance Level 2; PCB_Layout: Complies with manufacturer's recommendation.; DrillSize: Corresponds to nominal value.; Published: 15-Nov-2004; DatasheetDocument: Sep-2003; PackageDocument: Jun-2000; PackageReference: 918510x914; Publisher: Altium Limited; ComponentLink1Description: Manufacturer Link; ComponentLink1URL: http://www.harting.com/; ComponentLink2Description: Selection Guide; ComponentLink2URL: http://www.harting.com/imperia/md/content/steckverbinderundsystemkomponenten/folder/interface_engl_chapter_09.pdf
footprint 918510x914 (Connector; IDC, Thru-Hole; 10 Position; Vertical; Pitch 2.54 mm; Body 32.30 x 8.5 x 23.30 mm (LxWxH), Locking levers)
pins: 1, 2, 3, 4, 5, 6, 7, 8, 9, 10

## 09 18 510 6923
designator P?
Flat Cable Connector (IDC), Standard Male Header, Angled Solder Pin, 10 Contacts, Without Levers, Performance Level 2; PCB_Layout: Complies with manufacturer's recommendation.; DrillSize: Corresponds to nominal value.; Published: 15-Nov-2004; DatasheetDocument: Sep-2003; PackageDocument: Mar-2002; PackageReference: 918510x923; Publisher: Altium Limited; ComponentLink1Description: Manufacturer Link; ComponentLink1URL: http://www.harting.com/; ComponentLink2Description: Selection Guide; ComponentLink2URL: http://www.harting.com/imperia/md/content/steckverbinderundsystemkomponenten/folder/interface_engl_chapter_09.pdf
footprint 918510x923 (Connector; IDC, Thru-Hole; 10 Position; Right Angle; Pitch 2.54 mm; Body 32.30 x 8.5 x 17.30 mm (LxHxW), Without locking levers)
pins: 1, 2, 3, 4, 5, 6, 7, 8, 9, 10

## 09 18 510 6924
designator P?
Flat Cable Connector (IDC), Standard Male Header, Straight Solder Pin, 10 Contacts, Without Levers, Performance Level 2; PCB_Layout: Complies with manufacturer's recommendation.; DrillSize: Corresponds to nominal value.; Published: 15-Nov-2004; DatasheetDocument: Sep-2003; PackageDocument: Jun-2000; PackageReference: 918510x924; Publisher: Altium Limited; ComponentLink1Description: Manufacturer Link; ComponentLink1URL: http://www.harting.com/; ComponentLink2Description: Selection Guide; ComponentLink2URL: http://www.harting.com/imperia/md/content/steckverbinderundsystemkomponenten/folder/interface_engl_chapter_09.pdf
footprint 918510x924 (Connector; IDC, Thru-Hole; 10 Position; Vertical; Pitch 2.54 mm; Body 32.30 x 8.5 x 17.30 mm (LxWxH), Without locking levers)
pins: 1, 2, 3, 4, 5, 6, 7, 8, 9, 10

## 09 18 510 7323
designator P?
Flat Cable Connector (IDC), Low-Profile Male Header, Angled Solder Pin, 10 Contacts, Performance Level 3; PCB_Layout: Complies with manufacturer's recommendation.; DrillSize: Corresponds to nominal value.; Published: 15-Nov-2004; DatasheetDocument: Sep-2003; PackageDocument: 03-Jun-2003; PackageReference: 918510x323; Publisher: Altium Limited; ComponentLink1Description: Manufacturer Link; ComponentLink1URL: http://www.harting.com/; ComponentLink2Description: Selection Guide; ComponentLink2URL: http://www.harting.com/imperia/md/content/steckverbinderundsystemkomponenten/folder/interface_engl_chapter_09.pdf
footprint 918510x323 (Connector; IDC, Low Profile Male Header, Thru-Hole; 10 Position; Right Angle; Pitch 2.54 mm; Body 20.32 x 8.9 x 9.2 mm (LxWxH))
pins: 1, 2, 3, 4, 5, 6, 7, 8, 9, 10

## 09 18 510 7324
designator P?
Flat Cable Connector (IDC), Low-Profile Male Header, Straight Solder Pin, 10 Contacts, Performance Level 3; PCB_Layout: Complies with manufacturer's recommendation.; DrillSize: Corresponds to nominal value.; Published: 15-Nov-2004; DatasheetDocument: Sep-2003; PackageDocument: 03-Jun-2003; PackageReference: 918510x324; Publisher: Altium Limited; ComponentLink1Description: Manufacturer Link; ComponentLink1URL: http://www.harting.com/; ComponentLink2Description: Selection Guide; ComponentLink2URL: http://www.harting.com/imperia/md/content/steckverbinderundsystemkomponenten/folder/interface_engl_chapter_09.pdf
footprint 918510x324 (Connector; IDC, Low Profile Male Header, Thru-Hole; 10 Position; Vertical; Pitch 2.54 mm; Body 20.32 x 9.2 x 9.45 mm (LxWxH))
pins: 1, 2, 3, 4, 5, 6, 7, 8, 9, 10

## 09 18 510 7329
designator P?
Flat Cable Connector (IDC), Standard Male Header, Straight Press-in Pin, 10 Contacts, Performance Level 3; PCB_Layout: Complies with manufacturer's recommendation.; DrillSize: Corresponds to nominal value.; Published: 15-Nov-2004; PackageDocument: Feb-2000; PackageReference: 918510x329; Publisher: Altium Limited; ComponentLink1Description: Manufacturer Link; ComponentLink1URL: http://www.harting.com/; ComponentLink2Description: Packaging Specification; ComponentLink2URL: http://www.harkis.harting.com/_sek/pdf/TB_0918510x329_BL01_R31897.pdf
footprint 918510x329 (Connector; IDC, Straight Press-in Pin, Thru-Hole; 10 Position; Vertical; Pitch 2.54 mm; Body 20.32 x 9.2 x 9.45 mm (LxWxH))
pins: 1, 2, 3, 4, 5, 6, 7, 8, 9, 10